# Altium integrated library PTC_RESET_FUSE.IntLib: 1 symbol
Pins are listed as number, name and electrical type; pins without a type are passive.

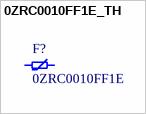
[diagram p0: symbol 0ZRC0010FF1E_TH]

## 0ZRC0010FF1E_TH
designator F?, comment 0ZRC0010FF1E
PTC Resettable Fuse 100mA 1.3A(trip) 90V  Radial 6.9 X 3.1mm Bulk; Price: None; Availability: In Stock; Value: *; MP: 0ZRC0010FF1E
footprint FUSE_RUSBF075
pins: 1, 2